# Altium footprint library IntergratedCircuits.PcbLib: 39 footprints (part 3 of 3)
Each footprint in its own frame and in the unit in brackets; x right, y up, seen from the top. Pads: shape width x height; smd on the part's side, far side on the other; paste and mask are expansions set on the pad; w line width, h text height; cw(c..) or ccw(c..) is an arc to the next point about the centre after c.
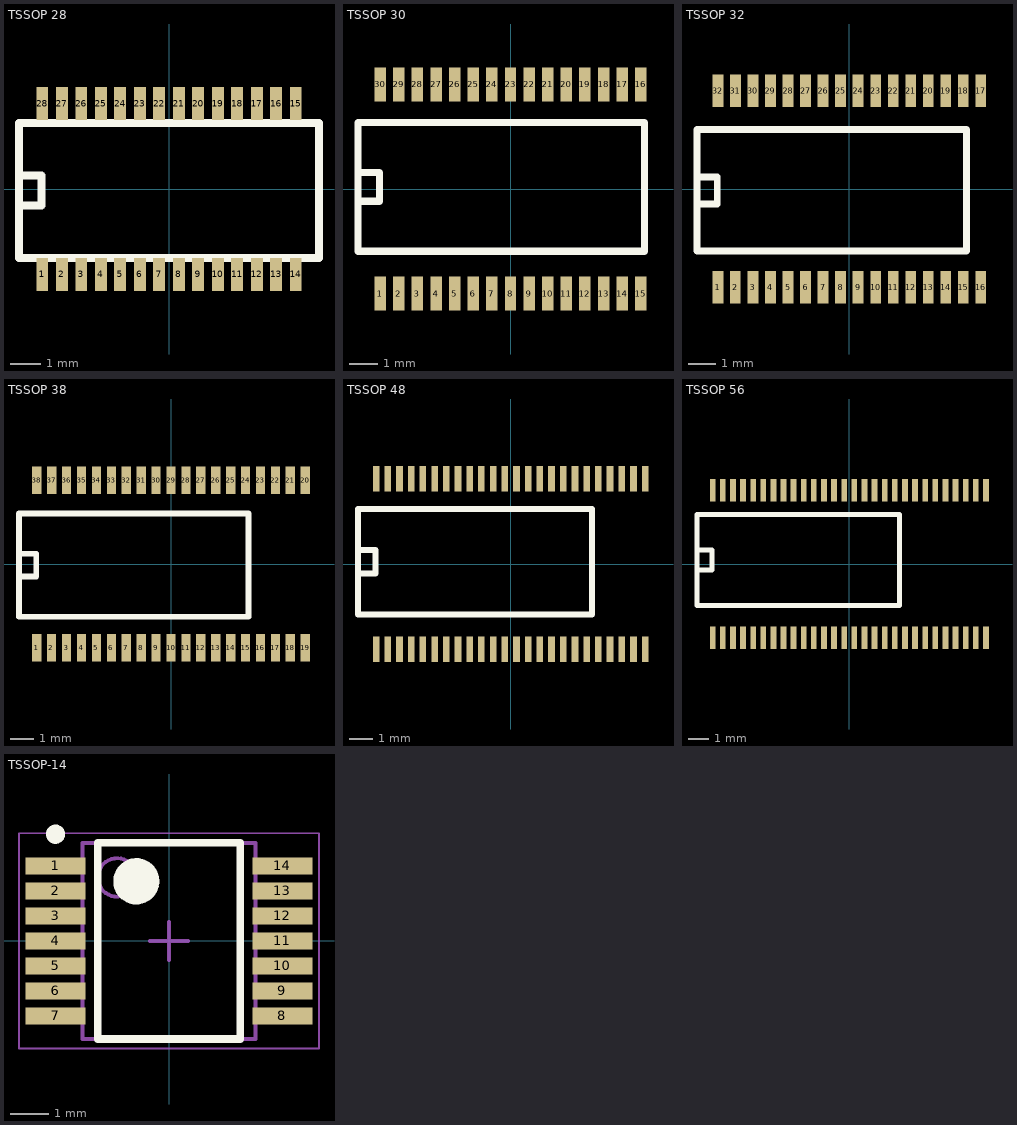
[diagram p2: the footprints below, top view; thin cyan lines are the x and y axes]

## TSSOP 28 [mm]
pads (28):
  rect 0.4x1.1 smd mask+0.201: 1(-4.225,-2.85) 2(-3.575,-2.85) 3(-2.925,-2.85) 4(-2.275,-2.85) 5(-1.625,-2.85) 6(-0.975,-2.85) 7(-0.325,-2.85) 8(0.325,-2.85) 9(0.975,-2.85) 10(1.625,-2.85) 11(2.275,-2.85) 12(2.925,-2.85) 13(3.575,-2.85) 14(4.225,-2.85) 15(4.225,2.85) 16(3.575,2.85) 17(2.925,2.85) 18(2.275,2.85) 19(1.625,2.85) 20(0.975,2.85) 21(0.325,2.85) 22(-0.325,2.85) 23(-0.975,2.85) 24(-1.625,2.85) 25(-2.275,2.85) 26(-2.925,2.85) 27(-3.575,2.85) 28(-4.225,2.85)
Top Overlay:
  lines w0.254: -5,-0.55 -4.25,-0.55 -4.25,0.45 -5,0.45 ; -5,-2.3 -5,2.2 5,2.2 5,-2.3 -5,-2.3
3D body "User Library-TSSOP-28 9_8x4_4.STEP": height 1.1, standoff 0, extent -4.9,-3.2 4.9,3.2

## TSSOP 30 [mm]
pads (30):
  rect 0.4x1.2 smd mask+0.201: 1(-4.55,-3.65) 2(-3.9,-3.65) 3(-3.25,-3.65) 4(-2.6,-3.65) 5(-1.95,-3.65) 6(-1.3,-3.65) 7(-0.65,-3.65) 8(0,-3.65) 9(0.65,-3.65) 10(1.3,-3.65) 11(1.95,-3.65) 12(2.6,-3.65) 13(3.25,-3.65) 14(3.9,-3.65) 15(4.55,-3.65) 16(4.55,3.65) 17(3.9,3.65) 18(3.25,3.65) 19(2.6,3.65) 20(1.95,3.65) 21(1.3,3.65) 22(0.65,3.65) 23(0,3.65) 24(-0.65,3.65) 25(-1.3,3.65) 26(-1.95,3.65) 27(-2.6,3.65) 28(-3.25,3.65) 29(-3.9,3.65) 30(-4.55,3.65)
Top Overlay:
  lines w0.254: -5.325,-0.425 -4.575,-0.425 -4.575,0.575 -5.325,0.575 ; -5.325,-2.175 -5.325,2.325 4.675,2.325 4.675,-2.175 -5.325,-2.175
3D body "User Library-TSSOP-30 11_1x6_2.STEP": height 1.1, standoff 0, extent -5.55,-4.05 5.55,4.05

## TSSOP 32 [mm]
pads (32):
  rect 0.4x1.2 smd mask+0.201: 1(-4.875,-3.65) 2(-4.235,-3.65) 3(-3.575,-3.65) 4(-2.925,-3.65) 5(-2.275,-3.65) 6(-1.625,-3.65) 7(-0.975,-3.65) 8(-0.325,-3.65) 9(0.325,-3.65) 10(0.975,-3.65) 11(1.625,-3.65) 12(2.275,-3.65) 13(2.925,-3.65) 14(3.575,-3.65) 15(4.225,-3.65) 16(4.875,-3.65) 17(4.875,3.65) 18(4.225,3.65) 19(3.575,3.65) 20(2.925,3.65) 21(2.275,3.65) 22(1.625,3.65) 23(0.975,3.65) 24(0.325,3.65) 25(-0.325,3.65) 26(-0.975,3.65) 27(-1.625,3.65) 28(-2.275,3.65) 29(-2.925,3.65) 30(-3.575,3.65) 31(-4.225,3.65) 32(-4.875,3.65)
Top Overlay:
  lines w0.254: -5.65,-0.55 -4.9,-0.55 -4.9,0.45 -5.65,0.45 ; -5.65,-2.3 -5.65,2.2 4.35,2.2 4.35,-2.3 -5.65,-2.3
3D body "User Library-TSSOP-32 11_1x6_2.STEP": height 1.1, standoff 0, extent -5.55,-4.05 5.55,4.05

## TSSOP 38 [mm]
pads (38):
  rect 0.4x1.2 smd mask+0.201: 1(-5.85,-3.65) 2(-5.21,-3.65) 3(-4.55,-3.65) 4(-3.9,-3.65) 5(-3.25,-3.65) 6(-2.6,-3.65) 7(-1.95,-3.65) 8(-1.3,-3.65) 9(-0.65,-3.65) 10(0,-3.65) 11(0.65,-3.65) 12(1.3,-3.65) 13(1.95,-3.65) 14(2.6,-3.65) 15(3.25,-3.65) 16(3.9,-3.65) 17(4.55,-3.65) 18(5.2,-3.65) 19(5.85,-3.65) 20(5.85,3.65) 21(5.2,3.65) 22(4.55,3.65) 23(3.9,3.65) 24(3.25,3.65) 25(2.6,3.65) 26(1.95,3.65) 27(1.3,3.65) 28(0.65,3.65) 29(0,3.65) 30(-0.65,3.65) 31(-1.3,3.65) 32(-1.95,3.65) 33(-2.6,3.65) 34(-3.25,3.65) 35(-3.9,3.65) 36(-4.55,3.65) 37(-5.2,3.65) 38(-5.85,3.65)
Top Overlay:
  lines w0.254: -6.625,-0.55 -5.875,-0.55 -5.875,0.45 -6.625,0.45 ; -6.625,-2.3 3.375,-2.3 3.375,2.2 -6.625,2.2 -6.625,-2.3
3D body "User Library-TSSOP-38 12_6x6_2.STEP": height 1.1, standoff 0, extent -6.3,-4.05 6.3,4.05

## TSSOP 48 [mm]
pads (48):
  rect 0.285x1.1 smd mask+0.201: 1(-5.75,-3.65) 2(-5.25,-3.65) 3(-4.75,-3.65) 4(-4.25,-3.65) 5(-3.75,-3.65) 6(-3.25,-3.65) 7(-2.75,-3.65) 8(-2.25,-3.65) 9(-1.75,-3.65) 10(-1.25,-3.65) 11(-0.75,-3.65) 12(-0.25,-3.65) 13(0.25,-3.65) 14(0.75,-3.65) 15(1.25,-3.65) 16(1.75,-3.65) 17(2.25,-3.65) 18(2.75,-3.65) 19(3.25,-3.65) 20(3.75,-3.65) 21(4.25,-3.65) 22(4.75,-3.65) 23(5.25,-3.65) 24(5.75,-3.65) 25(4.25,3.65) 26(4.75,3.65) 27(5.25,3.65) 28(5.75,3.65) 29(3.75,3.65) 30(3.25,3.65) 31(2.75,3.65) 32(2.25,3.65) 33(1.75,3.65) 34(1.25,3.65) 35(0.75,3.65) 36(0.25,3.65) 37(-0.25,3.65) 38(-0.75,3.65) 39(-1.25,3.65) 40(-1.75,3.65) 41(-2.25,3.65) 42(-2.75,3.65) 43(-3.25,3.65) 44(-3.75,3.65) 45(-4.25,3.65) 46(-4.75,3.65) 47(-5.25,3.65) 48(-5.75,3.65)
Top Overlay:
  lines w0.254: -6.525,-0.4 -5.775,-0.4 -5.775,0.6 -6.525,0.6 ; -6.525,-2.15 -6.525,2.35 3.475,2.35 3.475,-2.15 -6.525,-2.15

## TSSOP 56 [mm]
pads (56):
  rect 0.285x1.1 smd mask+0.201: 1(-6.75,-3.65) 2(-6.25,-3.65) 3(-5.75,-3.65) 4(-5.25,-3.65) 5(-4.75,-3.65) 6(-4.25,-3.65) 7(-3.75,-3.65) 8(-3.25,-3.65) 9(-2.75,-3.65) 10(-2.25,-3.65) 11(-1.75,-3.65) 12(-1.25,-3.65) 13(-0.75,-3.65) 14(-0.25,-3.65) 15(0.25,-3.65) 16(0.75,-3.65) 17(1.25,-3.65) 18(1.75,-3.65) 19(2.25,-3.65) 20(2.75,-3.65) 21(3.25,-3.65) 22(3.75,-3.65) 23(4.25,-3.65) 24(4.75,-3.65) 25(5.25,-3.65) 26(5.75,-3.65) 27(6.25,-3.65) 28(6.75,-3.65) 29(6.75,3.65) 30(6.25,3.65) 31(5.75,3.65) 32(5.25,3.65) 33(4.75,3.65) 34(4.25,3.65) 35(3.75,3.65) 36(3.25,3.65) 37(2.75,3.65) 38(2.25,3.65) 39(1.75,3.65) 40(1.25,3.65) 41(0.75,3.65) 42(0.25,3.65) 43(-0.25,3.65) 44(-0.75,3.65) 45(-1.25,3.65) 46(-1.75,3.65) 47(-2.25,3.65) 48(-2.75,3.65) 49(-3.25,3.65) 50(-3.75,3.65) 51(-4.25,3.65) 52(-4.75,3.65) 53(-5.25,3.65) 54(-5.75,3.65) 55(-6.25,3.65) 56(-6.75,3.65)
Top Overlay:
  lines w0.254: -7.525,-0.3 -6.775,-0.3 -6.775,0.7 -7.525,0.7 ; -7.525,-2.05 2.475,-2.05 2.475,2.45 -7.525,2.45 -7.525,-2.05
3D body "User Library-TSSOP-56 14_1x6_2.STEP": height 1.05, standoff -0.05, extent -7.05,-3.95 7.05,3.95

## TSSOP-14 [mm]
height 1.1
pads (14):
  rect 1.55x0.45 smd: 1(-2.95,1.95) 2(-2.95,1.3) 3(-2.95,0.65) 4(-2.95,0) 5(-2.95,-0.65) 6(-2.95,-1.3) 7(-2.95,-1.95) 8(2.95,-1.95) 9(2.95,-1.3) 10(2.95,-0.65) 11(2.95,0) 12(2.95,0.65) 13(2.95,1.3) 14(2.95,1.95)
Top Overlay:
  circle w0.25: c-2.95,2.775 r0.125
  circle w0.6: c-0.85,1.55 r0.3
  lines w0.2: -1.85,-2.55 -1.85,2.55 1.85,2.55 1.85,-2.55 -1.85,-2.55
Mechanical 13:
  circle w0.1: c-1.35,1.65 r0.5
  lines w0.1: -2.25,-2.55 -2.25,2.55 2.25,2.55 2.25,-2.55 -2.25,-2.55
Mechanical 15:
  lines w0.05: -3.9,-2.8 -3.9,2.8 3.9,2.8 3.9,-2.8 -3.9,-2.8
  lines w0.1: -0.5,0 0.5,0 ; 0,-0.5 0,0.5
3D body "User Library-TSSOP-14 5_1x4_4.STEP": height 1.1, standoff 0, extent -3.2,-2.55 3.2,2.55